# EAGLE library part LTC3778 (library PowerProducts)
LT-Spice library generated with : ltspice.ulp from: D:/Program Files (x86)/LTC/LTspiceIV/lib/sym/PowerProducts/LTC3780*.asy at 07.10.2012 18:33:37
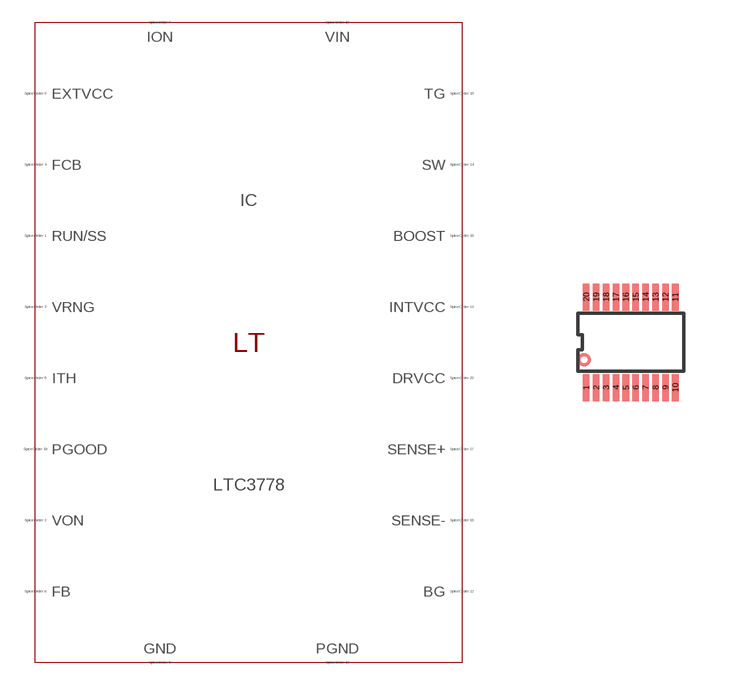
[diagram p323: symbol with the pads of TSSOP20(F); footprint TSSOP20(F)]

Designator prefix IC

## LTC3778 (SPICEMODEL: LTC3778.sub; SPICEPREFIX: X; VALUE2: LTC3778)  [TSSOP20(F)]
1  RUN/SS  pas
2  VON  pas
3  PGOOD  pas
4  VRNG  pas
5  ITH  pas
6  FCB  pas
7  GND  pas
8  ION  pas
9  FB  pas
10  EXTVCC  pas
11  VIN  pas
12  INTVCC  pas
13  DRVCC  pas
14  BG  pas
15  PGND  pas
16  SENSE-  pas
17  SENSE+  pas
18  SW  pas
19  TG  pas
20  BOOST  pas

## Footprint TSSOP20(F) (pad centres in mm)
Package generated from: TSSOP20(F).asc (!PADS-POWERPCB-V9.3-BASIC! DESIGN DATABASE ASCII FILE 1.0) with :import-pads-powerpcb-v5.ulp Version 1.0.1 at 04.10.2012 14:11:39
smd 0.165 x 0.677: 1 -1.114,-1.132; 2 -0.866,-1.132; 3 -0.619,-1.132; 4 -0.371,-1.132; 5 -0.124,-1.132; 6 0.124,-1.132; 7 0.371,-1.132; 8 0.619,-1.132; 9 0.866,-1.132; 10 1.114,-1.132; 11 1.114,1.132; 12 0.866,1.132; 13 0.619,1.132; 14 0.371,1.132; 15 0.124,1.132; 16 -0.124,1.132; 17 -0.371,1.132; 18 -0.619,1.132; 19 -0.866,1.132; 20 -1.114,1.132